# Altium footprint library YaoPCB.PCBLIB: 415 footprints (part 15 of 26)
Each footprint in its own frame and in the unit in brackets; x right, y up, seen from the top. Pads: shape width x height; smd on the part's side, far side on the other; paste and mask are expansions set on the pad; w line width, h text height; cw(c..) or ccw(c..) is an arc to the next point about the centre after c.
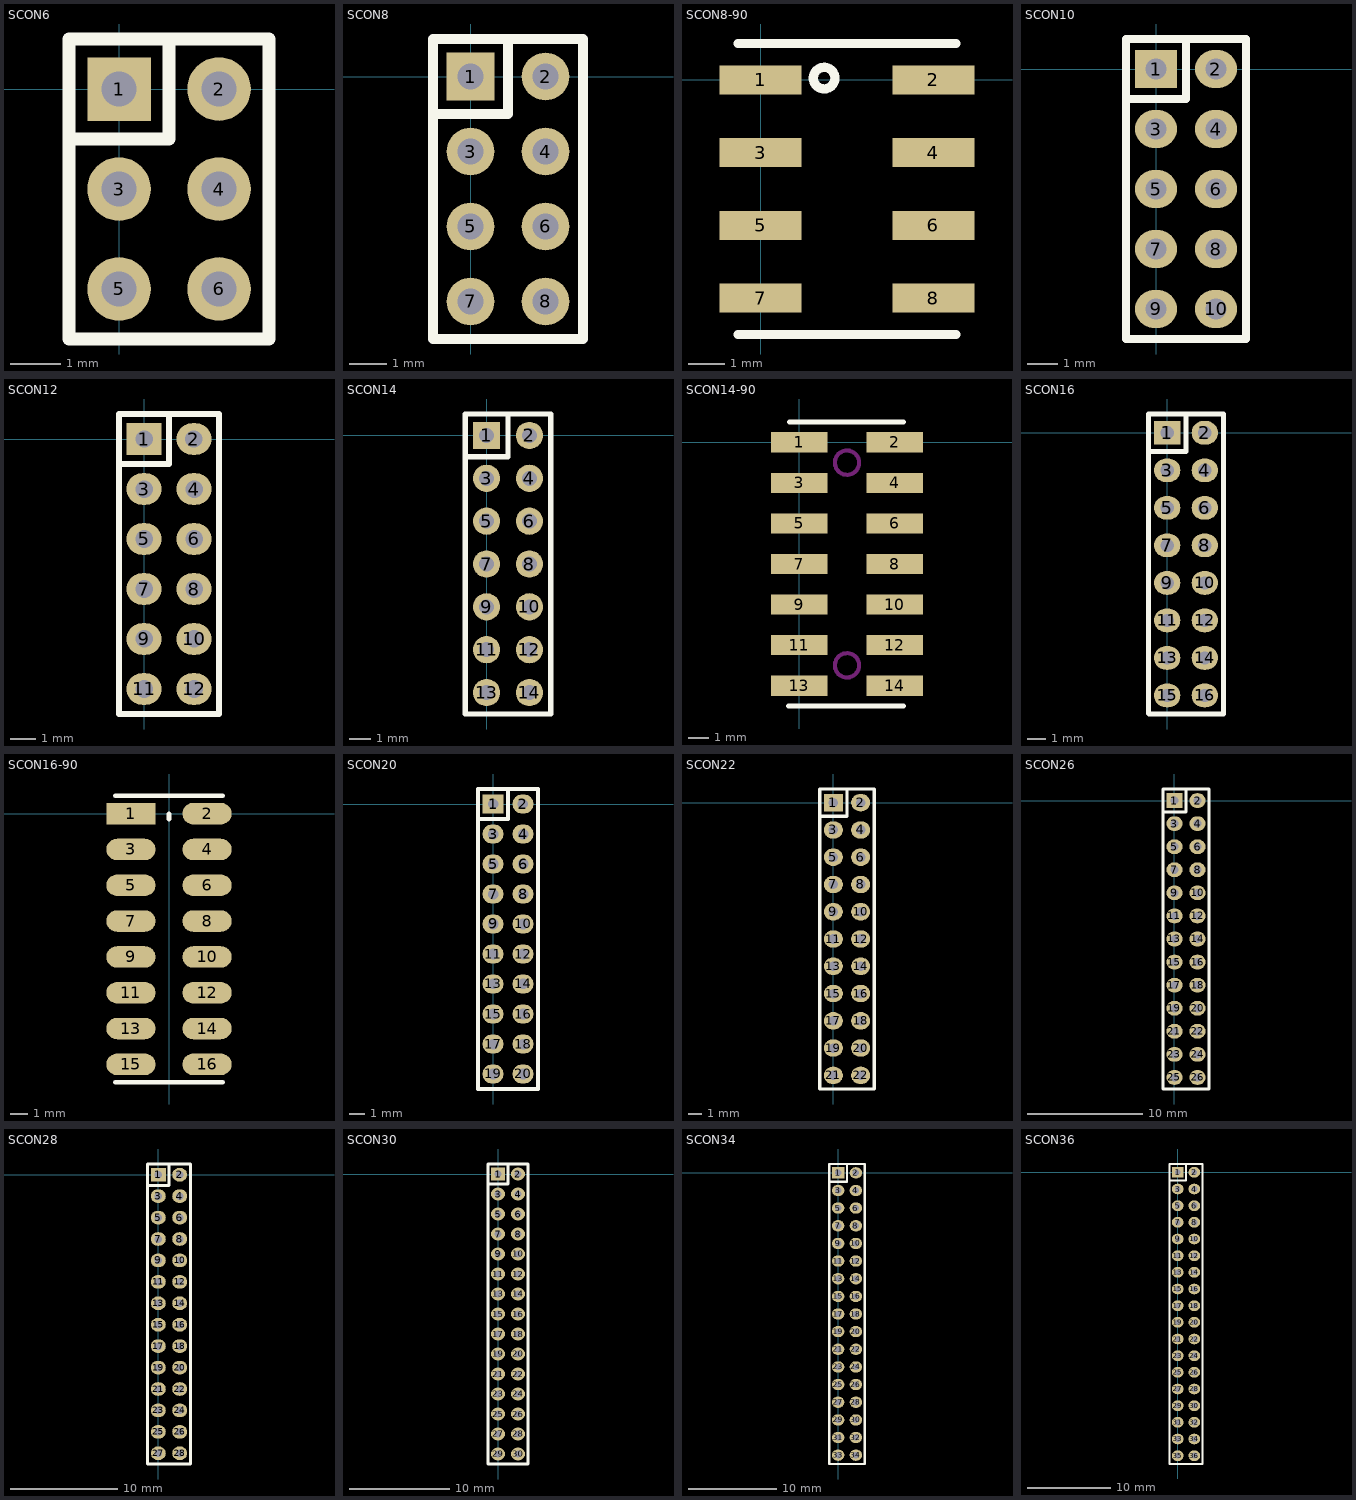
[diagram p14: the footprints below, top view; thin cyan lines are the x and y axes]

## SCON6 [mm]
pads (6):
  rect 1.27x1.27 hole 0.7: 1(0,0)
  round 1.27 hole 0.7: 2(2,0) 3(0,-2) 4(2,-2) 5(0,-4) 6(2,-4)
TopOverlay:
  lines w0.254: -1,-1 1,-1 1,1 ; -1,-5 -1,1 3,1 3,-5 -1,-5

## SCON8 [mm]
pads (8):
  rect 1.27x1.27 hole 0.7: 1(0,0)
  round 1.27 hole 0.7: 2(2,0) 3(0,-2) 4(2,-2) 5(0,-4) 6(2,-4) 7(0,-6) 8(2,-6)
TopOverlay:
  lines w0.254: -1,-1 1,-1 1,1 ; -1,-7 3,-7 3,1 -1,1 -1,-7

## SCON8-90 [mm]
pads (8):
  rect 2.25x0.8 smd: 1(0,0) 2(4.75,0) 3(0,-2) 4(4.75,-2) 5(0,-4) 6(4.75,-4) 7(0,-6) 8(4.75,-6)
TopOverlay:
  circle w0.254: c1.745,0.05 r0.297
  lines w0.254: -0.625,-7 5.375,-7 ; -0.625,1 5.375,1

## SCON10 [mm]
pads (10):
  rect 1.397x1.27 hole 0.7: 1(0,0)
  oval 1.397x1.27 hole 0.7: 2(2,0) 3(0,-2) 4(2,-2) 5(0,-4) 6(2,-4) 7(0,-6) 8(2,-6) 9(0,-8) 10(2,-8)
TopOverlay:
  lines w0.254: -1,-1 1,-1 1,1 ; -1,-9 3,-9 3,1 -1,1 -1,-9

## SCON12 [mm]
pads (12):
  rect 1.397x1.27 hole 0.7: 1(0,0)
  oval 1.397x1.27 hole 0.7: 2(2,0) 3(0,-2) 4(2,-2) 5(0,-4) 6(2,-4) 7(0,-6) 8(2,-6) 9(0,-8) 10(2,-8) 11(0,-10) 12(2,-10)
TopOverlay:
  lines w0.254: -1,-1 1,-1 1,1 ; -1,-11 3,-11 3,1 -1,1 -1,-11

## SCON14 [mm]
pads (14):
  rect 1.27x1.27 hole 0.7: 1(0,0)
  round 1.27 hole 0.7: 2(2,0) 3(0,-2) 4(2,-2) 5(0,-4) 6(2,-4) 7(0,-6) 8(2,-6) 9(0,-8) 10(2,-8) 11(0,-10) 12(2,-10) 13(0,-12) 14(2,-12)
TopOverlay:
  lines w0.254: -1,-1 1,-1 1,1 ; -1,-13 3,-13 3,1 -1,1 -1,-13

## SCON14-90 [mm]
pads (14):
  rect 2.8x1 smd: 1(0,0) 2(4.7,0) 3(0,-2) 4(4.7,-2) 5(0,-4) 6(4.7,-4) 7(0,-6) 8(4.7,-6) 9(0,-8) 10(4.7,-8) 11(0,-10) 12(4.7,-10) 13(0,-12) 14(4.7,-12)
TopOverlay:
  lines w0.254: -0.53,-13.01 5.125,-13 ; -0.48,1 5.125,1
KeepOutLayer:
  circle w0.2: c2.35,-1 r0.6
  circle w0.2: c2.35,-11 r0.6

## SCON16 [mm]
pads (16):
  rect 1.397x1.27 hole 0.7: 1(0,0)
  oval 1.397x1.27 hole 0.7: 2(2,0) 3(0,-2) 4(2,-2) 5(0,-4) 6(2,-4) 7(0,-6) 8(2,-6) 9(0,-8) 10(2,-8) 11(0,-10) 12(2,-10) 13(0,-12) 14(2,-12) 15(0,-14) 16(2,-14)
TopOverlay:
  lines w0.254: -1,-14.97 -1,1 3,1 3,-14.99 ; -1,-1 1,-1 1,1 ; -0.98,-14.99 2.99,-14.99

## SCON16-90 [mm]
pads (16):
  rect 2.75x1.2 smd: 1(-2.125,0)
  oval 2.75x1.2 smd: 2(2.125,0) 3(-2.125,-2) 4(2.125,-2) 5(-2.125,-4) 6(2.125,-4) 7(-2.125,-6) 8(2.125,-6) 9(-2.125,-8) 10(2.125,-8) 11(-2.125,-10) 12(2.125,-10) 13(-2.125,-12) 14(2.125,-12) 15(-2.125,-14) 16(2.125,-14)
TopOverlay:
  lines w0.254: -3,-15 3,-15 ; -3,1 3,1 ; 0,-0.31 0,0

## SCON20 [mm]
pads (20):
  rect 1.397x1.27 hole 0.7: 1(0,0)
  oval 1.397x1.27 hole 0.7: 2(2,0) 3(0,-2) 4(2,-2) 5(0,-4) 6(2,-4) 7(0,-6) 8(2,-6) 9(0,-8) 10(2,-8) 11(0,-10) 12(2,-10) 13(0,-12) 14(2,-12) 15(0,-14) 16(2,-14) 17(0,-16) 18(2,-16) 19(0,-18) 20(2,-18)
TopOverlay:
  lines w0.254: -1,-1 1,-1 1,1 ; -1,-19 3,-19 3,1 -1,1 -1,-19

## SCON22 [mm]
pads (22):
  rect 1.397x1.27 hole 0.7: 1(0,0)
  oval 1.397x1.27 hole 0.7: 2(2,0) 3(0,-2) 4(2,-2) 5(0,-4) 6(2,-4) 7(0,-6) 8(2,-6) 9(0,-8) 10(2,-8) 11(0,-10) 12(2,-10) 13(0,-12) 14(2,-12) 15(0,-14) 16(2,-14) 17(0,-16) 18(2,-16) 19(0,-18) 20(2,-18) 21(0,-20) 22(2,-20)
TopOverlay:
  lines w0.254: -1,-1 1,-1 1,1 ; -1,-21 -1,1 3,1 3,-21 -1,-21

## SCON26 [mm]
pads (26):
  rect 1.397x1.27 hole 0.7: 1(0,0)
  oval 1.397x1.27 hole 0.7: 2(2,0) 3(0,-2) 4(2,-2) 5(0,-4) 6(2,-4) 7(0,-6) 8(2,-6) 9(0,-8) 10(2,-8) 11(0,-10) 12(2,-10) 13(0,-12) 14(2,-12) 15(0,-14) 16(2,-14) 17(0,-16) 18(2,-16) 19(0,-18) 20(2,-18) 21(0,-20) 22(2,-20) 23(0,-22) 24(2,-22) 25(0,-24) 26(2,-24)
TopOverlay:
  lines w0.254: -1,-1 1,-1 1,1 ; -1,-25 -1,1 3,1 3,-25 -1,-25

## SCON28 [mm]
pads (28):
  rect 1.397x1.27 hole 0.7: 1(0,0)
  oval 1.397x1.27 hole 0.7: 2(2,0) 3(0,-2) 4(2,-2) 5(0,-4) 6(2,-4) 7(0,-6) 8(2,-6) 9(0,-8) 10(2,-8) 11(0,-10) 12(2,-10) 13(0,-12) 14(2,-12) 15(0,-14) 16(2,-14) 17(0,-16) 18(2,-16) 19(0,-18) 20(2,-18) 21(0,-20) 22(2,-20) 23(0,-22) 24(2,-22) 25(0,-24) 26(2,-24) 27(0,-26) 28(2,-26)
TopOverlay:
  lines w0.254: -1,-27 3,-27 3,1 -1,1 -1,-26.97 ; -1,-1 1,-1 1,1

## SCON30 [mm]
pads (30):
  rect 1.397x1.27 hole 0.7: 1(0,0)
  oval 1.397x1.27 hole 0.7: 2(2,0) 3(0,-2) 4(2,-2) 5(0,-4) 6(2,-4) 7(0,-6) 8(2,-6) 9(0,-8) 10(2,-8) 11(0,-10) 12(2,-10) 13(0,-12) 14(2,-12) 15(0,-14) 16(2,-14) 17(0,-16) 18(2,-16) 19(0,-18) 20(2,-18) 21(0,-20) 22(2,-20) 23(0,-22) 24(2,-22) 25(0,-24) 26(2,-24) 27(0,-26) 28(2,-26) 29(0,-28) 30(2,-28)
TopOverlay:
  lines w0.254: -1,-1 1,-1 1,1 ; -1,-29 -1,1 3,1 3,-29 -1,-29

## SCON34 [mm]
pads (34):
  rect 1.397x1.27 hole 0.7: 1(0,0)
  oval 1.397x1.27 hole 0.7: 2(2,0) 3(0,-2) 4(2,-2) 5(0,-4) 6(2,-4) 7(0,-6) 8(2,-6) 9(0,-8) 10(2,-8) 11(0,-10) 12(2,-10) 13(0,-12) 14(2,-12) 15(0,-14) 16(2,-14) 17(0,-16) 18(2,-16) 19(0,-18) 20(2,-18) 21(0,-20) 22(2,-20) 23(0,-22) 24(2,-22) 25(0,-24) 26(2,-24) 27(0,-26) 28(2,-26) 29(0,-28) 30(2,-28) 31(0,-30) 32(2,-30) 33(0,-32) 34(2,-32)
TopOverlay:
  lines w0.254: -1,-1 1,-1 1,1 ; -1,-33 3,-33 3,1 -1,1 -1,-33

## SCON36 [mm]
pads (36):
  rect 1.397x1.27 hole 0.7: 1(0,0)
  oval 1.397x1.27 hole 0.7: 2(2,0) 3(0,-2) 4(2,-2) 5(0,-4) 6(2,-4) 7(0,-6) 8(2,-6) 9(0,-8) 10(2,-8) 11(0,-10) 12(2,-10) 13(0,-12) 14(2,-12) 15(0,-14) 16(2,-14) 17(0,-16) 18(2,-16) 19(0,-18) 20(2,-18) 21(0,-20) 22(2,-20) 23(0,-22) 24(2,-22) 25(0,-24) 26(2,-24) 27(0,-26) 28(2,-26) 29(0,-28) 30(2,-28) 31(0,-30) 32(2,-30) 33(0,-32) 34(2,-32) 35(0,-34) 36(2,-34)
TopOverlay:
  lines w0.254: -1,-1 1,-1 1,1 ; -1,-35 3,-35 3,1 -1,1 -1,-35